# EAGLE library part KLEMME_MINI_30 (library pkess_klemmen)
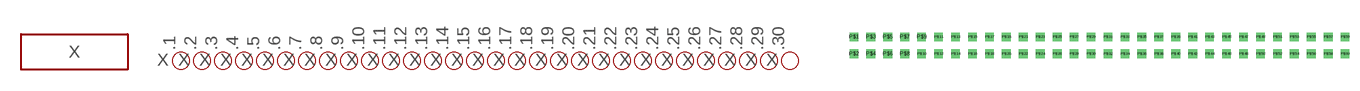
[diagram p1: symbol with the pads of KLEMME_2_30; footprint KLEMME_2_30]

Designator prefix X; gates .1=KLEMME_MINI .2=KLEMME_MINI .3=KLEMME_MINI .4=KLEMME_MINI .5=KLEMME_MINI .6=KLEMME_MINI .7=KLEMME_MINI .8=KLEMME_MINI .9=KLEMME_MINI .10=KLEMME_MINI .11=KLEMME_MINI .12=KLEMME_MINI .13=KLEMME_MINI .14=KLEMME_MINI .15=KLEMME_MINI .16=KLEMME_MINI .17=KLEMME_MINI .18=KLEMME_MINI .19=KLEMME_MINI .20=KLEMME_MINI .21=KLEMME_MINI .22=KLEMME_MINI .23=KLEMME_MINI .24=KLEMME_MINI .25=KLEMME_MINI .26=KLEMME_MINI .27=KLEMME_MINI .28=KLEMME_MINI .29=KLEMME_MINI .30=KLEMME_MINI KONTAKTSPIEGEL=KONTAKTSPIEGEL

## KLEMME_MINI_30  [KLEMME_2_30]
P$1  .1:1  pas
P$2  .1:2  pas
P$3  .2:1  pas
P$4  .2:2  pas
P$5  .3:1  pas
P$6  .3:2  pas
P$7  .4:1  pas
P$8  .4:2  pas
P$9  .5:1  pas
P$10  .5:2  pas
P$11  .6:1  pas
P$12  .6:2  pas
P$13  .7:1  pas
P$14  .7:2  pas
P$15  .8:1  pas
P$16  .8:2  pas
P$17  .9:1  pas
P$18  .9:2  pas
P$19  .10:1  pas
P$20  .10:2  pas
P$21  .11:1  pas
P$22  .11:2  pas
P$23  .12:1  pas
P$24  .12:2  pas
P$25  .13:1  pas
P$26  .13:2  pas
P$27  .14:1  pas
P$28  .14:2  pas
P$29  .15:1  pas
P$30  .15:2  pas
P$31  .16:1  pas
P$32  .16:2  pas
P$33  .17:1  pas
P$34  .17:2  pas
P$35  .18:1  pas
P$36  .18:2  pas
P$37  .19:1  pas
P$38  .19:2  pas
P$39  .20:1  pas
P$40  .20:2  pas
P$41  .21:1  pas
P$42  .21:2  pas
P$43  .22:1  pas
P$44  .22:2  pas
P$45  .23:1  pas
P$46  .23:2  pas
P$47  .24:1  pas
P$48  .24:2  pas
P$49  .25:1  pas
P$50  .25:2  pas
P$51  .26:1  pas
P$52  .26:2  pas
P$53  .27:1  pas
P$54  .27:2  pas
P$55  .28:1  pas
P$56  .28:2  pas
P$57  .29:1  pas
P$58  .29:2  pas
P$59  .30:1  pas
P$60  .30:2  pas

## Footprint KLEMME_2_30 (pad centres in mm)
drill 0.8 square: P$1 0,2.54; P$2 0,0; P$3 2.54,2.54; P$4 2.54,0; P$5 5.08,2.54; P$6 5.08,0; P$7 7.62,2.54; P$8 7.62,0; P$9 10.16,2.54; P$10 10.16,0; P$11 12.7,2.54; P$12 12.7,0; P$13 15.24,2.54; P$14 15.24,0; P$15 17.78,2.54; P$16 17.78,0; P$17 20.32,2.54; P$18 20.32,0; P$19 22.86,2.54; P$20 22.86,0; P$21 25.4,2.54; P$22 25.4,0; P$23 27.94,2.54; P$24 27.94,0; P$25 30.48,2.54; P$26 30.48,0; P$27 33.02,2.54; P$28 33.02,0; P$29 35.56,2.54; P$30 35.56,0; P$31 38.1,2.54; P$32 38.1,0; P$33 40.64,2.54; P$34 40.64,0; P$35 43.18,2.54; P$36 43.18,0; P$37 45.72,2.54; P$38 45.72,0; P$39 48.26,2.54; P$40 48.26,0; P$41 50.8,2.54; P$42 50.8,0; P$43 53.34,2.54; P$44 53.34,0; P$45 55.88,2.54; P$46 55.88,0; P$47 58.42,2.54; P$48 58.42,0; P$49 60.96,2.54; P$50 60.96,0; P$51 63.5,2.54; P$52 63.5,0; P$53 66.04,2.54; P$54 66.04,0; P$55 68.58,2.54; P$56 68.58,0; P$57 71.12,2.54; P$58 71.12,0; P$59 73.66,2.54; P$60 73.66,0